# Altium footprint library Relays.PcbLib: 1 footprints
Each footprint in its own frame and in the unit in brackets; x right, y up, seen from the top. Pads: shape width x height; smd on the part's side, far side on the other; paste and mask are expansions set on the pad; w line width, h text height; cw(c..) or ccw(c..) is an arc to the next point about the centre after c.
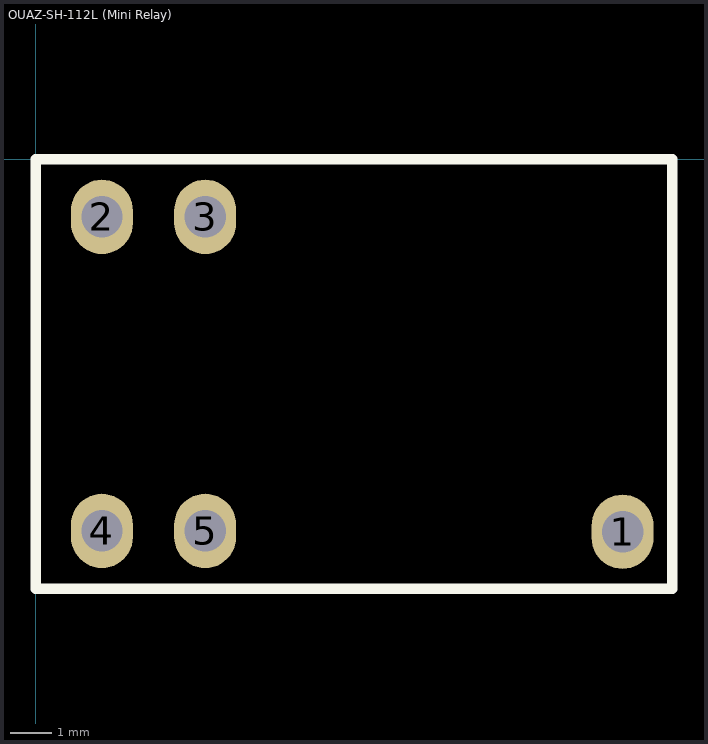
[diagram p0: the footprint, top view; thin cyan lines are the x and y axes]

## OUAZ-SH-112L (Mini Relay) [mm] "OUAZ-SH-112L"
height 12
pads (5):
  oval 1.5x1.8 hole 1: 1(14.2,-9.017) 2(1.6,-1.397) 3(4.1,-1.397) 4(1.6,-8.997) 5(4.1,-8.997)
Top Overlay:
  lines w0.254: 0,-10.4 15.4,-10.4 15.4,0 0,0 0,-10.4
3D body: height 11.2, standoff 0.5, extent 0,-10.414 15.367,0